# Altium schematic symbol library THM15-2411.SchLib: 1 symbol
Pins are listed as number, name and electrical type; pins without a type are passive.

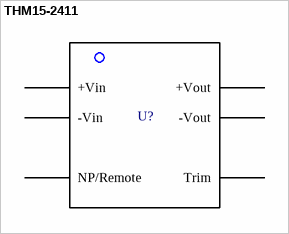
[diagram p0: symbol THM15-2411]

## THM15-2411
designator U?, comment 5V,15W Medical Power Supply  (value not drawn)
PartNumber: THM 15-2411; PartDescription: DC DC CONVERTER 5V 15W; Manufacturer: Traco Power; Package Type: 6 TH; Supplier 1: Digi-Key; Supplier Part Number 1: 1951-1633-ND
footprint THM15-2411
pins: 1 +Vin, 2 -Vin, 3 +Vout, 4 -Vout, 5 Trim, 6 NP/Remote